# Altium schematic symbol library MCU - AVR.SchLib: 58 symbols (part 1 of 2)
Pins are listed as number, name and electrical type; pins without a type are passive.

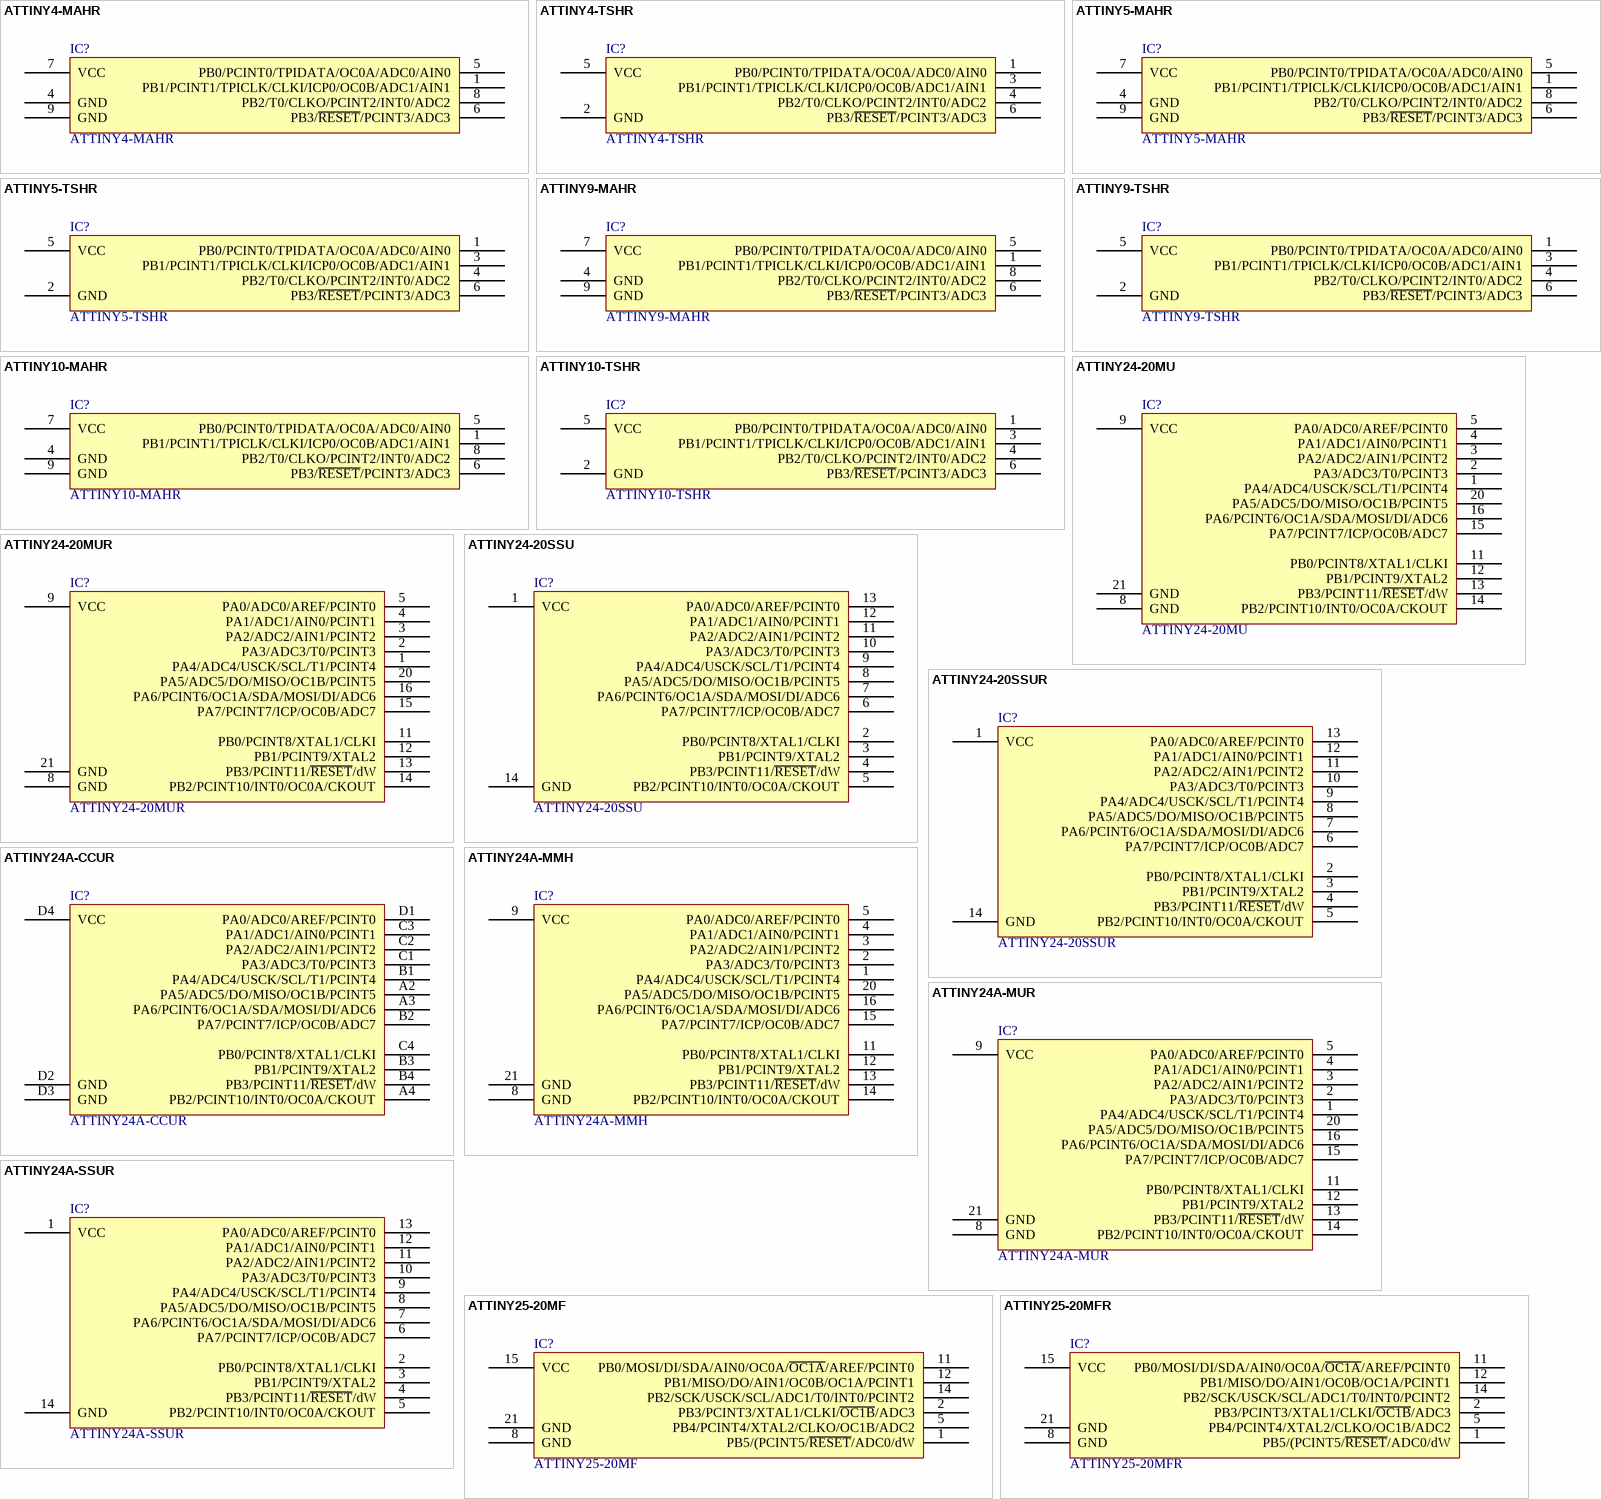
[diagram p0: symbols ATTINY4-MAHR to ATTINY25-20MFR]

## ATTINY4-MAHR
designator IC?
IC MCU 8BIT 512B FLASH 8UDFN; Manufacturer: Atmel; Core Processor: AVR; Core Size: 8-Bit; Speed: 12MHz; Peripherals: POR, PWM, WDT; Number Of IO: 4; Program Memory Size: 512B (256 x 16); Ram Size: 32 x 8; Voltage: 1.8 V ~ 5.5 V; Oscillator Type: Internal; Part Number: ATTINY4-MAHR; PartId: 9152; Supplier 1: Digi-Key; Supplier Part Number 1: ATTINY4-MAHRTR-ND; ComponentLink1Description: Datasheet; ComponentLink1URL: http://www.atmel.com/images/atmel-8127-avr-8-bit-microcontroller-attiny4-attiny5-attiny9-attiny10_datasheet-summary.pdf; ComponentLink2Description: Digi-Key Listing; ComponentLink2URL: http://www.digikey.com/product-detail/en/ATTINY4-MAHR/ATTINY4-MAHRTR-ND/2271064; Price: 0.4284; Device Package: 8-UFDFN Exposed Pad; Connectivity: -; Program Memory Type: FLASH; EEPROM Size: -; Data Converters: -
footprint ATMEL UDFN-8 2x2mm 8MA4
pins: 1 PB1/PCINT1/TPICLK/CLKI/ICP0/OC0B/ADC1/AIN1, 4 GND, 5 PB0/PCINT0/TPIDATA/OC0A/ADC0/AIN0, 6 PB3/~{RESET}/PCINT3/ADC3, 7 VCC, 8 PB2/T0/CLKO/PCINT2/INT0/ADC2, 9 GND

## ATTINY4-TSHR
designator IC?
IC MCU 8BIT 512B FLASH SOT23-6; Manufacturer: Atmel; Core Processor: AVR; Core Size: 8-Bit; Speed: 12MHz; Peripherals: POR, PWM, WDT; Number Of IO: 4; Program Memory Size: 512B (256 x 16); Ram Size: 32 x 8; Voltage: 1.8 V ~ 5.5 V; Oscillator Type: Internal; Part Number: ATTINY4-TSHR; PartId: 9148; Supplier 1: Digi-Key; Supplier Part Number 1: ATTINY4-TSHRTR-ND; ComponentLink1Description: Datasheet; ComponentLink1URL: http://www.atmel.com/images/atmel-8127-avr-8-bit-microcontroller-attiny4-attiny5-attiny9-attiny10_datasheet-summary.pdf; ComponentLink2Description: Digi-Key Listing; ComponentLink2URL: http://www.digikey.com/product-detail/en/ATTINY4-TSHR/ATTINY4-TSHRTR-ND/2238292; Price: 0.378; Device Package: SOT-23-6; Connectivity: -; Program Memory Type: FLASH; EEPROM Size: -; Data Converters: -
footprint ATMEL SOT-23-6 6ST1
pins: 1 PB0/PCINT0/TPIDATA/OC0A/ADC0/AIN0, 2 GND, 3 PB1/PCINT1/TPICLK/CLKI/ICP0/OC0B/ADC1/AIN1, 4 PB2/T0/CLKO/PCINT2/INT0/ADC2, 5 VCC, 6 PB3/~{RESET}/PCINT3/ADC3

## ATTINY5-MAHR
designator IC?
IC MCU 8BIT 512B FLASH 8UDFN; Manufacturer: Atmel; Core Processor: AVR; Core Size: 8-Bit; Speed: 12MHz; Peripherals: POR, PWM, WDT; Number Of IO: 4; Program Memory Size: 512B (256 x 16); Ram Size: 32 x 8; Voltage: 1.8 V ~ 5.5 V; Data Converters: A/D 4x8b; Oscillator Type: Internal; Part Number: ATTINY5-MAHR; PartId: 9153; Supplier 1: Digi-Key; Supplier Part Number 1: ATTINY5-MAHRTR-ND; ComponentLink1Description: Datasheet; ComponentLink1URL: http://www.atmel.com/images/atmel-8127-avr-8-bit-microcontroller-attiny4-attiny5-attiny9-attiny10_datasheet-summary.pdf; ComponentLink2Description: Digi-Key Listing; ComponentLink2URL: http://www.digikey.com/product-detail/en/ATTINY5-MAHR/ATTINY5-MAHRTR-ND/2271062; Price: 0.441; Device Package: 8-UFDFN Exposed Pad; Connectivity: -; Program Memory Type: FLASH; EEPROM Size: -
footprint ATMEL UDFN-8 2x2mm 8MA4
pins: 1 PB1/PCINT1/TPICLK/CLKI/ICP0/OC0B/ADC1/AIN1, 4 GND, 5 PB0/PCINT0/TPIDATA/OC0A/ADC0/AIN0, 6 PB3/~{RESET}/PCINT3/ADC3, 7 VCC, 8 PB2/T0/CLKO/PCINT2/INT0/ADC2, 9 GND

## ATTINY5-TSHR
designator IC?
IC MCU 8BIT 512B FLASH SOT23-6; Manufacturer: Atmel; Core Processor: AVR; Core Size: 8-Bit; Speed: 12MHz; Peripherals: POR, PWM, WDT; Number Of IO: 4; Program Memory Size: 512B (256 x 16); Ram Size: 32 x 8; Voltage: 1.8 V ~ 5.5 V; Data Converters: A/D 4x8b; Oscillator Type: Internal; Part Number: ATTINY5-TSHR; PartId: 9149; Supplier 1: Digi-Key; Supplier Part Number 1: ATTINY5-TSHRTR-ND; ComponentLink1Description: Datasheet; ComponentLink1URL: http://www.atmel.com/images/atmel-8127-avr-8-bit-microcontroller-attiny4-attiny5-attiny9-attiny10_datasheet-summary.pdf; ComponentLink2Description: Digi-Key Listing; ComponentLink2URL: http://www.digikey.com/product-detail/en/ATTINY5-TSHR/ATTINY5-TSHRTR-ND/2238294; Price: 0.3906; Device Package: SOT-23-6; Connectivity: -; Program Memory Type: FLASH; EEPROM Size: -
footprint ATMEL SOT-23-6 6ST1
pins: 1 PB0/PCINT0/TPIDATA/OC0A/ADC0/AIN0, 2 GND, 3 PB1/PCINT1/TPICLK/CLKI/ICP0/OC0B/ADC1/AIN1, 4 PB2/T0/CLKO/PCINT2/INT0/ADC2, 5 VCC, 6 PB3/~{RESET}/PCINT3/ADC3

## ATTINY9-MAHR
designator IC?
IC MCU 8BIT 1KB FLASH 8UDFN; Manufacturer: Atmel; Core Processor: AVR; Core Size: 8-Bit; Speed: 12MHz; Peripherals: POR, PWM, WDT; Number Of IO: 4; Program Memory Size: 1KB (512 x 16); Ram Size: 32 x 8; Voltage: 1.8 V ~ 5.5 V; Oscillator Type: Internal; Part Number: ATTINY9-MAHR; PartId: 9151; Supplier 1: Digi-Key; Supplier Part Number 1: ATTINY9-MAHRTR-ND; ComponentLink1Description: Datasheet; ComponentLink1URL: http://www.atmel.com/images/atmel-8127-avr-8-bit-microcontroller-attiny4-attiny5-attiny9-attiny10_datasheet-summary.pdf; ComponentLink2Description: Digi-Key Listing; ComponentLink2URL: http://www.digikey.com/product-detail/en/ATTINY9-MAHR/ATTINY9-MAHRTR-ND/2271056; Price: 0.441; Device Package: 8-UFDFN Exposed Pad; Connectivity: -; Program Memory Type: FLASH; EEPROM Size: -; Data Converters: -
footprint ATMEL UDFN-8 2x2mm 8MA4
pins: 1 PB1/PCINT1/TPICLK/CLKI/ICP0/OC0B/ADC1/AIN1, 4 GND, 5 PB0/PCINT0/TPIDATA/OC0A/ADC0/AIN0, 6 PB3/~{RESET}/PCINT3/ADC3, 7 VCC, 8 PB2/T0/CLKO/PCINT2/INT0/ADC2, 9 GND

## ATTINY9-TSHR
designator IC?
IC MCU 8BIT 1KB FLASH SOT23-6; Manufacturer: Atmel; Core Processor: AVR; Core Size: 8-Bit; Speed: 12MHz; Peripherals: POR, PWM, WDT; Number Of IO: 4; Program Memory Size: 1KB (512 x 16); Ram Size: 32 x 8; Voltage: 1.8 V ~ 5.5 V; Oscillator Type: Internal; Part Number: ATTINY9-TSHR; PartId: 9150; Supplier 1: Digi-Key; Supplier Part Number 1: ATTINY9-TSHRTR-ND; ComponentLink1Description: Datasheet; ComponentLink1URL: http://www.atmel.com/images/atmel-8127-avr-8-bit-microcontroller-attiny4-attiny5-attiny9-attiny10_datasheet-summary.pdf; ComponentLink2Description: Digi-Key Listing; ComponentLink2URL: http://www.digikey.com/product-detail/en/ATTINY9-TSHR/ATTINY9-TSHRTR-ND/2238299; Price: 0.3906; Device Package: SOT-23-6; Connectivity: -; Program Memory Type: FLASH; EEPROM Size: -; Data Converters: -
footprint ATMEL SOT-23-6 6ST1
pins: 1 PB0/PCINT0/TPIDATA/OC0A/ADC0/AIN0, 2 GND, 3 PB1/PCINT1/TPICLK/CLKI/ICP0/OC0B/ADC1/AIN1, 4 PB2/T0/CLKO/PCINT2/INT0/ADC2, 5 VCC, 6 PB3/~{RESET}/PCINT3/ADC3

## ATTINY10-MAHR
designator IC?
IC MCU 8BIT 1KB FLASH 8UDFN; Manufacturer: Atmel; Core Processor: AVR; Core Size: 8-Bit; Speed: 12MHz; Peripherals: POR, PWM, WDT; Number Of IO: 4; Program Memory Size: 1KB (512 x 16); Ram Size: 32 x 8; Voltage: 1.8 V ~ 5.5 V; Data Converters: A/D 4x8b; Oscillator Type: Internal; Part Number: ATTINY10-MAHR; PartId: 9154; Supplier 1: Digi-Key; Supplier Part Number 1: ATTINY10-MAHRTR-ND; ComponentLink1Description: Datasheet; ComponentLink1URL: http://www.atmel.com/images/atmel-8127-avr-8-bit-microcontroller-attiny4-attiny5-attiny9-attiny10_datasheet-summary.pdf; ComponentLink2Description: Digi-Key Listing; ComponentLink2URL: http://www.digikey.com/product-detail/en/ATTINY10-MAHR/ATTINY10-MAHRTR-ND/2357300; Price: 0.4536; Device Package: 8-UFDFN Exposed Pad; Connectivity: -; Program Memory Type: FLASH; EEPROM Size: -
footprint ATMEL UDFN-8 2x2mm 8MA4
pins: 1 PB1/PCINT1/TPICLK/CLKI/ICP0/OC0B/ADC1/AIN1, 4 GND, 5 PB0/PCINT0/TPIDATA/OC0A/ADC0/AIN0, 6 PB3/~{RESET}/PCINT3/ADC3, 7 VCC, 8 PB2/T0/CLKO/PCINT2/INT0/ADC2, 9 GND

## ATTINY10-TSHR
designator IC?
IC MCU 8BIT 1KB FLASH SOT23; Manufacturer: Atmel; Core Processor: AVR; Core Size: 8-Bit; Speed: 12MHz; Peripherals: POR, PWM, WDT; Number Of IO: 4; Program Memory Size: 1KB (512 x 16); Ram Size: 32 x 8; Voltage: 1.8 V ~ 5.5 V; Data Converters: A/D 4x8b; Oscillator Type: Internal; Part Number: ATTINY10-TSHR; PartId: 9147; Supplier 1: Digi-Key; Supplier Part Number 1: ATTINY10-TSHRTR-ND; ComponentLink1Description: Datasheet; ComponentLink1URL: http://www.atmel.com/images/atmel-8127-avr-8-bit-microcontroller-attiny4-attiny5-attiny9-attiny10_datasheet-summary.pdf; ComponentLink2Description: Digi-Key Listing; ComponentLink2URL: http://www.digikey.com/product-detail/en/ATTINY10-TSHR/ATTINY10-TSHRTR-ND/2051008; Price: 0.4032; Device Package: SOT-23-6; Connectivity: -; Program Memory Type: FLASH; EEPROM Size: -
footprint ATMEL SOT-23-6 6ST1
pins: 1 PB0/PCINT0/TPIDATA/OC0A/ADC0/AIN0, 2 GND, 3 PB1/PCINT1/TPICLK/CLKI/ICP0/OC0B/ADC1/AIN1, 4 PB2/T0/CLKO/PCINT2/INT0/ADC2, 5 VCC, 6 PB3/~{RESET}/PCINT3/ADC3

## ATTINY24-20MU
designator IC?
IC MCU 8BIT 2KB FLASH 20QFN; Manufacturer: Atmel; Core Processor: AVR; Core Size: 8-Bit; Speed: 20MHz; Number Of IO: 12; Program Memory Size: 2KB (1K x 16); EEPROM Size: 128 x 8; Data Converters: A/D 8x10b; Oscillator Type: Internal; Part Number: ATTINY24-20MU; PartId: 9199; Supplier 1: Digi-Key; Supplier Part Number 1: ATTINY24-20MU-ND; ComponentLink1Description: Datasheet; ComponentLink1URL: http://www.atmel.com/Images/doc8006.pdf; ComponentLink2Description: Digi-Key Listing; ComponentLink2URL: https://www.digikey.com/product-detail/en/ATTINY24-20MU/ATTINY24-20MU-ND/1245882; Price: 2.93; Device Package: 20-WFQFN Exposed Pad; Series: AVR® ATtiny; Program Memory Type: FLASH; Ram Size: 128 x 8
footprint Atmel MLF-20 20M1
pins: 1 PA4/ADC4/USCK/SCL/T1/PCINT4, 2 PA3/ADC3/T0/PCINT3, 3 PA2/ADC2/AIN1/PCINT2, 4 PA1/ADC1/AIN0/PCINT1, 5 PA0/ADC0/AREF/PCINT0, 8 GND, 9 VCC, 11 PB0/PCINT8/XTAL1/CLKI, 12 PB1/PCINT9/XTAL2, 13 PB3/PCINT11/~{RESET}/dW, 14 PB2/PCINT10/INT0/OC0A/CKOUT, 15 PA7/PCINT7/ICP/OC0B/ADC7, 16 PA6/PCINT6/OC1A/SDA/MOSI/DI/ADC6, 20 PA5/ADC5/DO/MISO/OC1B/PCINT5, 21 GND

## ATTINY24-20MUR
designator IC?
IC MCU 8BIT 2KB FLASH 20QFN; Manufacturer: Atmel; Core Processor: AVR; Core Size: 8-Bit; Speed: 20MHz; Number Of IO: 12; Program Memory Size: 2KB (1K x 16); EEPROM Size: 128 x 8; Data Converters: A/D 8x10b; Oscillator Type: Internal; Part Number: ATTINY24-20MUR; PartId: 9204; Supplier 1: Digi-Key; Supplier Part Number 1: ATTINY24-20MURTR-ND; ComponentLink1Description: Datasheet; ComponentLink1URL: http://www.atmel.com/Images/8006s.pdf; ComponentLink2Description: Digi-Key Listing; ComponentLink2URL: https://www.digikey.com/product-detail/en/ATTINY24-20MUR/ATTINY24-20MURTR-ND/2357339; Price: 1.4962; Device Package: 20-WFQFN Exposed Pad; Series: AVR® ATtiny; Program Memory Type: FLASH; Ram Size: 128 x 8
footprint Atmel MLF-20 20M1
pins: 1 PA4/ADC4/USCK/SCL/T1/PCINT4, 2 PA3/ADC3/T0/PCINT3, 3 PA2/ADC2/AIN1/PCINT2, 4 PA1/ADC1/AIN0/PCINT1, 5 PA0/ADC0/AREF/PCINT0, 8 GND, 9 VCC, 11 PB0/PCINT8/XTAL1/CLKI, 12 PB1/PCINT9/XTAL2, 13 PB3/PCINT11/~{RESET}/dW, 14 PB2/PCINT10/INT0/OC0A/CKOUT, 15 PA7/PCINT7/ICP/OC0B/ADC7, 16 PA6/PCINT6/OC1A/SDA/MOSI/DI/ADC6, 20 PA5/ADC5/DO/MISO/OC1B/PCINT5, 21 GND

## ATTINY24-20SSU
designator IC?
IC MCU 8BIT 2KB FLASH 14SOIC; Manufacturer: Atmel; Core Processor: AVR; Core Size: 8-Bit; Speed: 20MHz; Number Of IO: 12; Program Memory Size: 2KB (1K x 16); EEPROM Size: 128 x 8; Data Converters: A/D 8x10b; Oscillator Type: Internal; Part Number: ATTINY24-20SSU; PartId: 9194; Supplier 1: Digi-Key; Supplier Part Number 1: ATTINY24-20SSU-ND; ComponentLink1Description: Datasheet; ComponentLink1URL: http://www.atmel.com/Images/8006s.pdf; ComponentLink2Description: Digi-Key Listing; ComponentLink2URL: https://www.digikey.com/product-detail/en/ATTINY24-20SSU/ATTINY24-20SSU-ND/1245884; Price: 2.83; Device Package: 14-SOIC (0.154", 3.90mm Width); Series: AVR® ATtiny; Program Memory Type: FLASH; Ram Size: 128 x 8
footprint Atmel SO-14 14S1
pins: 1 VCC, 2 PB0/PCINT8/XTAL1/CLKI, 3 PB1/PCINT9/XTAL2, 4 PB3/PCINT11/~{RESET}/dW, 5 PB2/PCINT10/INT0/OC0A/CKOUT, 6 PA7/PCINT7/ICP/OC0B/ADC7, 7 PA6/PCINT6/OC1A/SDA/MOSI/DI/ADC6, 8 PA5/ADC5/DO/MISO/OC1B/PCINT5, 9 PA4/ADC4/USCK/SCL/T1/PCINT4, 10 PA3/ADC3/T0/PCINT3, 11 PA2/ADC2/AIN1/PCINT2, 12 PA1/ADC1/AIN0/PCINT1, 13 PA0/ADC0/AREF/PCINT0, 14 GND

## ATTINY24-20SSUR
designator IC?
IC MCU 8BIT 2KB FLASH 14SOIC; Manufacturer: Atmel; Core Processor: AVR; Core Size: 8-Bit; Speed: 20MHz; Number Of IO: 12; Program Memory Size: 2KB (1K x 16); EEPROM Size: 128 x 8; Data Converters: A/D 8x10b; Oscillator Type: Internal; Part Number: ATTINY24-20SSUR; PartId: 9198; Supplier 1: Digi-Key; Supplier Part Number 1: ATTINY24-20SSURTR-ND; ComponentLink1Description: Datasheet; ComponentLink1URL: http://www.atmel.com/Images/doc8006.pdf; ComponentLink2Description: Digi-Key Listing; ComponentLink2URL: https://www.digikey.com/product-detail/en/ATTINY24-20SSUR/ATTINY24-20SSURTR-ND/2357341; Price: 1.4362; Device Package: 14-SOIC (0.154", 3.90mm Width); Series: AVR® ATtiny; Program Memory Type: FLASH; Ram Size: 128 x 8
footprint Atmel SO-14 14S1
pins: 1 VCC, 2 PB0/PCINT8/XTAL1/CLKI, 3 PB1/PCINT9/XTAL2, 4 PB3/PCINT11/~{RESET}/dW, 5 PB2/PCINT10/INT0/OC0A/CKOUT, 6 PA7/PCINT7/ICP/OC0B/ADC7, 7 PA6/PCINT6/OC1A/SDA/MOSI/DI/ADC6, 8 PA5/ADC5/DO/MISO/OC1B/PCINT5, 9 PA4/ADC4/USCK/SCL/T1/PCINT4, 10 PA3/ADC3/T0/PCINT3, 11 PA2/ADC2/AIN1/PCINT2, 12 PA1/ADC1/AIN0/PCINT1, 13 PA0/ADC0/AREF/PCINT0, 14 GND

## ATTINY24A-CCUR
designator IC?
IC MCU 8BIT 2KB FLASH 15UFBGA; Manufacturer: Atmel; Core Processor: AVR; Core Size: 8-Bit; Speed: 20MHz; Number Of IO: 12; Program Memory Size: 2KB (1K x 16); EEPROM Size: 128 x 8; Data Converters: A/D 8x10b; Oscillator Type: Internal; Part Number: ATTINY24A-CCUR; PartId: 9190; Supplier 1: Digi-Key; Supplier Part Number 1: ATTINY24A-CCURTR-ND; ComponentLink1Description: Datasheet; ComponentLink1URL: http://www.atmel.com/images/8183s.pdf; ComponentLink2Description: Digi-Key Listing; ComponentLink2URL: https://www.digikey.com/product-detail/en/ATTINY24A-CCUR/ATTINY24A-CCURTR-ND/2357342; Price: 0.6725; Device Package: 15-UFBGA; Series: AVR® ATtiny; Program Memory Type: FLASH; Ram Size: 128 x 8
footprint Atmel BGA-15 3x3mm 15CC1
pins: A2 PA5/ADC5/DO/MISO/OC1B/PCINT5, A3 PA6/PCINT6/OC1A/SDA/MOSI/DI/ADC6, A4 PB2/PCINT10/INT0/OC0A/CKOUT, B1 PA4/ADC4/USCK/SCL/T1/PCINT4, B2 PA7/PCINT7/ICP/OC0B/ADC7, B3 PB1/PCINT9/XTAL2, B4 PB3/PCINT11/~{RESET}/dW, C1 PA3/ADC3/T0/PCINT3, C2 PA2/ADC2/AIN1/PCINT2, C3 PA1/ADC1/AIN0/PCINT1, C4 PB0/PCINT8/XTAL1/CLKI, D1 PA0/ADC0/AREF/PCINT0, D2 GND, D3 GND, D4 VCC

## ATTINY24A-MMH
designator IC?
IC MCU 8BIT 2KB FLASH 20VQFN; Manufacturer: Atmel; Core Processor: AVR; Core Size: 8-Bit; Speed: 20MHz; Number Of IO: 12; Program Memory Size: 2KB (1K x 16); EEPROM Size: 128 x 8; Data Converters: A/D 8x10b; Oscillator Type: Internal; Part Number: ATTINY24A-MMH; PartId: 9187; Supplier 1: Digi-Key; Supplier Part Number 1: ATTINY24A-MMH-ND; ComponentLink1Description: Datasheet; ComponentLink1URL: http://www.atmel.com/images/8183s.pdf; ComponentLink2Description: Digi-Key Listing; ComponentLink2URL: https://www.digikey.com/product-detail/en/ATTINY24A-MMH/ATTINY24A-MMH-ND/2051002; Price: 1.53; Device Package: 20-VFQFN Exposed Pad; Series: AVR® ATtiny; Program Memory Type: FLASH; Ram Size: 128 x 8
footprint Atmel VQFN-20 3x3mm 20M2
pins: 1 PA4/ADC4/USCK/SCL/T1/PCINT4, 2 PA3/ADC3/T0/PCINT3, 3 PA2/ADC2/AIN1/PCINT2, 4 PA1/ADC1/AIN0/PCINT1, 5 PA0/ADC0/AREF/PCINT0, 8 GND, 9 VCC, 11 PB0/PCINT8/XTAL1/CLKI, 12 PB1/PCINT9/XTAL2, 13 PB3/PCINT11/~{RESET}/dW, 14 PB2/PCINT10/INT0/OC0A/CKOUT, 15 PA7/PCINT7/ICP/OC0B/ADC7, 16 PA6/PCINT6/OC1A/SDA/MOSI/DI/ADC6, 20 PA5/ADC5/DO/MISO/OC1B/PCINT5, 21 GND

## ATTINY24A-MUR
designator IC?
IC MCU 8BIT 2KB FLASH 20QFN; Manufacturer: Atmel; Core Processor: AVR; Core Size: 8-Bit; Speed: 20MHz; Number Of IO: 12; Program Memory Size: 2KB (1K x 16); EEPROM Size: 128 x 8; Data Converters: A/D 8x10b; Oscillator Type: Internal; Part Number: ATTINY24A-MUR; PartId: 9181; Supplier 1: Digi-Key; Supplier Part Number 1: ATTINY24A-MURTR-ND; ComponentLink1Description: Datasheet; ComponentLink1URL: http://www.atmel.com/images/8183s.pdf; ComponentLink2Description: Digi-Key Listing; ComponentLink2URL: https://www.digikey.com/product-detail/en/ATTINY24A-MUR/ATTINY24A-MURTR-ND/2357350; Price: 0.675; Device Package: 20-WFQFN Exposed Pad; Series: AVR® ATtiny; Program Memory Type: FLASH; Ram Size: 128 x 8
footprint Atmel MLF-20 20M1
pins: 1 PA4/ADC4/USCK/SCL/T1/PCINT4, 2 PA3/ADC3/T0/PCINT3, 3 PA2/ADC2/AIN1/PCINT2, 4 PA1/ADC1/AIN0/PCINT1, 5 PA0/ADC0/AREF/PCINT0, 8 GND, 9 VCC, 11 PB0/PCINT8/XTAL1/CLKI, 12 PB1/PCINT9/XTAL2, 13 PB3/PCINT11/~{RESET}/dW, 14 PB2/PCINT10/INT0/OC0A/CKOUT, 15 PA7/PCINT7/ICP/OC0B/ADC7, 16 PA6/PCINT6/OC1A/SDA/MOSI/DI/ADC6, 20 PA5/ADC5/DO/MISO/OC1B/PCINT5, 21 GND

## ATTINY24A-SSUR
designator IC?
IC MCU 8BIT 2KB FLASH 14SOIC; Manufacturer: Atmel; Core Processor: AVR; Core Size: 8-Bit; Speed: 20MHz; Number Of IO: 12; Program Memory Size: 2KB (1K x 16); EEPROM Size: 128 x 8; Data Converters: A/D 8x10b; Oscillator Type: Internal; Part Number: ATTINY24A-SSUR; PartId: 9186; Supplier 1: Digi-Key; Supplier Part Number 1: ATTINY24A-SSURTR-ND; ComponentLink1Description: Datasheet; ComponentLink1URL: http://www.atmel.com/images/8183s.pdf; ComponentLink2Description: Digi-Key Listing; ComponentLink2URL: https://www.digikey.com/product-detail/en/ATTINY24A-SSUR/ATTINY24A-SSURTR-ND/2357352; Price: 0.625; Device Package: 14-SOIC (0.154", 3.90mm Width); Series: AVR® ATtiny; Program Memory Type: FLASH; Ram Size: 128 x 8
footprint Atmel SO-14 14S1
pins: 1 VCC, 2 PB0/PCINT8/XTAL1/CLKI, 3 PB1/PCINT9/XTAL2, 4 PB3/PCINT11/~{RESET}/dW, 5 PB2/PCINT10/INT0/OC0A/CKOUT, 6 PA7/PCINT7/ICP/OC0B/ADC7, 7 PA6/PCINT6/OC1A/SDA/MOSI/DI/ADC6, 8 PA5/ADC5/DO/MISO/OC1B/PCINT5, 9 PA4/ADC4/USCK/SCL/T1/PCINT4, 10 PA3/ADC3/T0/PCINT3, 11 PA2/ADC2/AIN1/PCINT2, 12 PA1/ADC1/AIN0/PCINT1, 13 PA0/ADC0/AREF/PCINT0, 14 GND

## ATTINY25-20MF
designator IC?
IC MCU 8BIT 2KB FLASH 20QFN; Manufacturer: Atmel; Core Processor: AVR; Core Size: 8-Bit; Speed: 20MHz; Number Of IO: 6; Program Memory Size: 2KB (1K x 16); EEPROM Size: 128 x 8; Data Converters: A/D 4x10b; Oscillator Type: Internal; Part Number: ATTINY25-20MF; PartId: 9178; Supplier 1: Digi-Key; Supplier Part Number 1: ATTINY25-20MF-ND; ComponentLink1Description: Datasheet; ComponentLink1URL: http://www.atmel.com/Images/Atmel-2586-AVR-8-bit-Microcontroller-ATtiny25-ATtiny45-ATtiny85_Datasheet-Summary.pdf; ComponentLink2Description: Digi-Key Listing; ComponentLink2URL: https://www.digikey.com/product-detail/en/ATTINY25-20MF/ATTINY25-20MF-ND/3046446; Price: 1.46; Device Package: 20-WFQFN Exposed Pad; Series: AVR® ATtiny; Program Memory Type: FLASH; Ram Size: 128 x 8
footprint Atmel MLF-20 20M1
pins: 1 PB5/(PCINT5/~{RESET}/ADC0/dW, 2 PB3/PCINT3/XTAL1/CLKI/~{OC1B}/ADC3, 5 PB4/PCINT4/XTAL2/CLKO/OC1B/ADC2, 8 GND, 11 PB0/MOSI/DI/SDA/AIN0/OC0A/~{OC1A}/AREF/PCINT0, 12 PB1/MISO/DO/AIN1/OC0B/OC1A/PCINT1, 14 PB2/SCK/USCK/SCL/ADC1/T0/INT0/PCINT2, 15 VCC, 21 GND

## ATTINY25-20MFR
designator IC?
IC MCU 8BIT 2KB FLASH 20QFN; Manufacturer: Atmel; Core Processor: AVR; Core Size: 8-Bit; Speed: 20MHz; Number Of IO: 6; Program Memory Size: 2KB (1K x 16); EEPROM Size: 128 x 8; Data Converters: A/D 4x10b; Oscillator Type: Internal; Part Number: ATTINY25-20MFR; PartId: 9165; Supplier 1: Digi-Key; Supplier Part Number 1: ATTINY25-20MFRTR-ND; ComponentLink1Description: Datasheet; ComponentLink1URL: http://www.atmel.com/Images/Atmel-2586-AVR-8-bit-Microcontroller-ATtiny25-ATtiny45-ATtiny85_Datasheet-Summary.pdf; ComponentLink2Description: Digi-Key Listing; ComponentLink2URL: https://www.digikey.com/product-detail/en/ATTINY25-20MFR/ATTINY25-20MFRTR-ND/3046318; Price: 0.6925; Device Package: 20-WFQFN Exposed Pad; Series: AVR® ATtiny; Program Memory Type: FLASH; Ram Size: 128 x 8
footprint Atmel MLF-20 20M1
pins: 1 PB5/(PCINT5/~{RESET}/ADC0/dW, 2 PB3/PCINT3/XTAL1/CLKI/~{OC1B}/ADC3, 5 PB4/PCINT4/XTAL2/CLKO/OC1B/ADC2, 8 GND, 11 PB0/MOSI/DI/SDA/AIN0/OC0A/~{OC1A}/AREF/PCINT0, 12 PB1/MISO/DO/AIN1/OC0B/OC1A/PCINT1, 14 PB2/SCK/USCK/SCL/ADC1/T0/INT0/PCINT2, 15 VCC, 21 GND

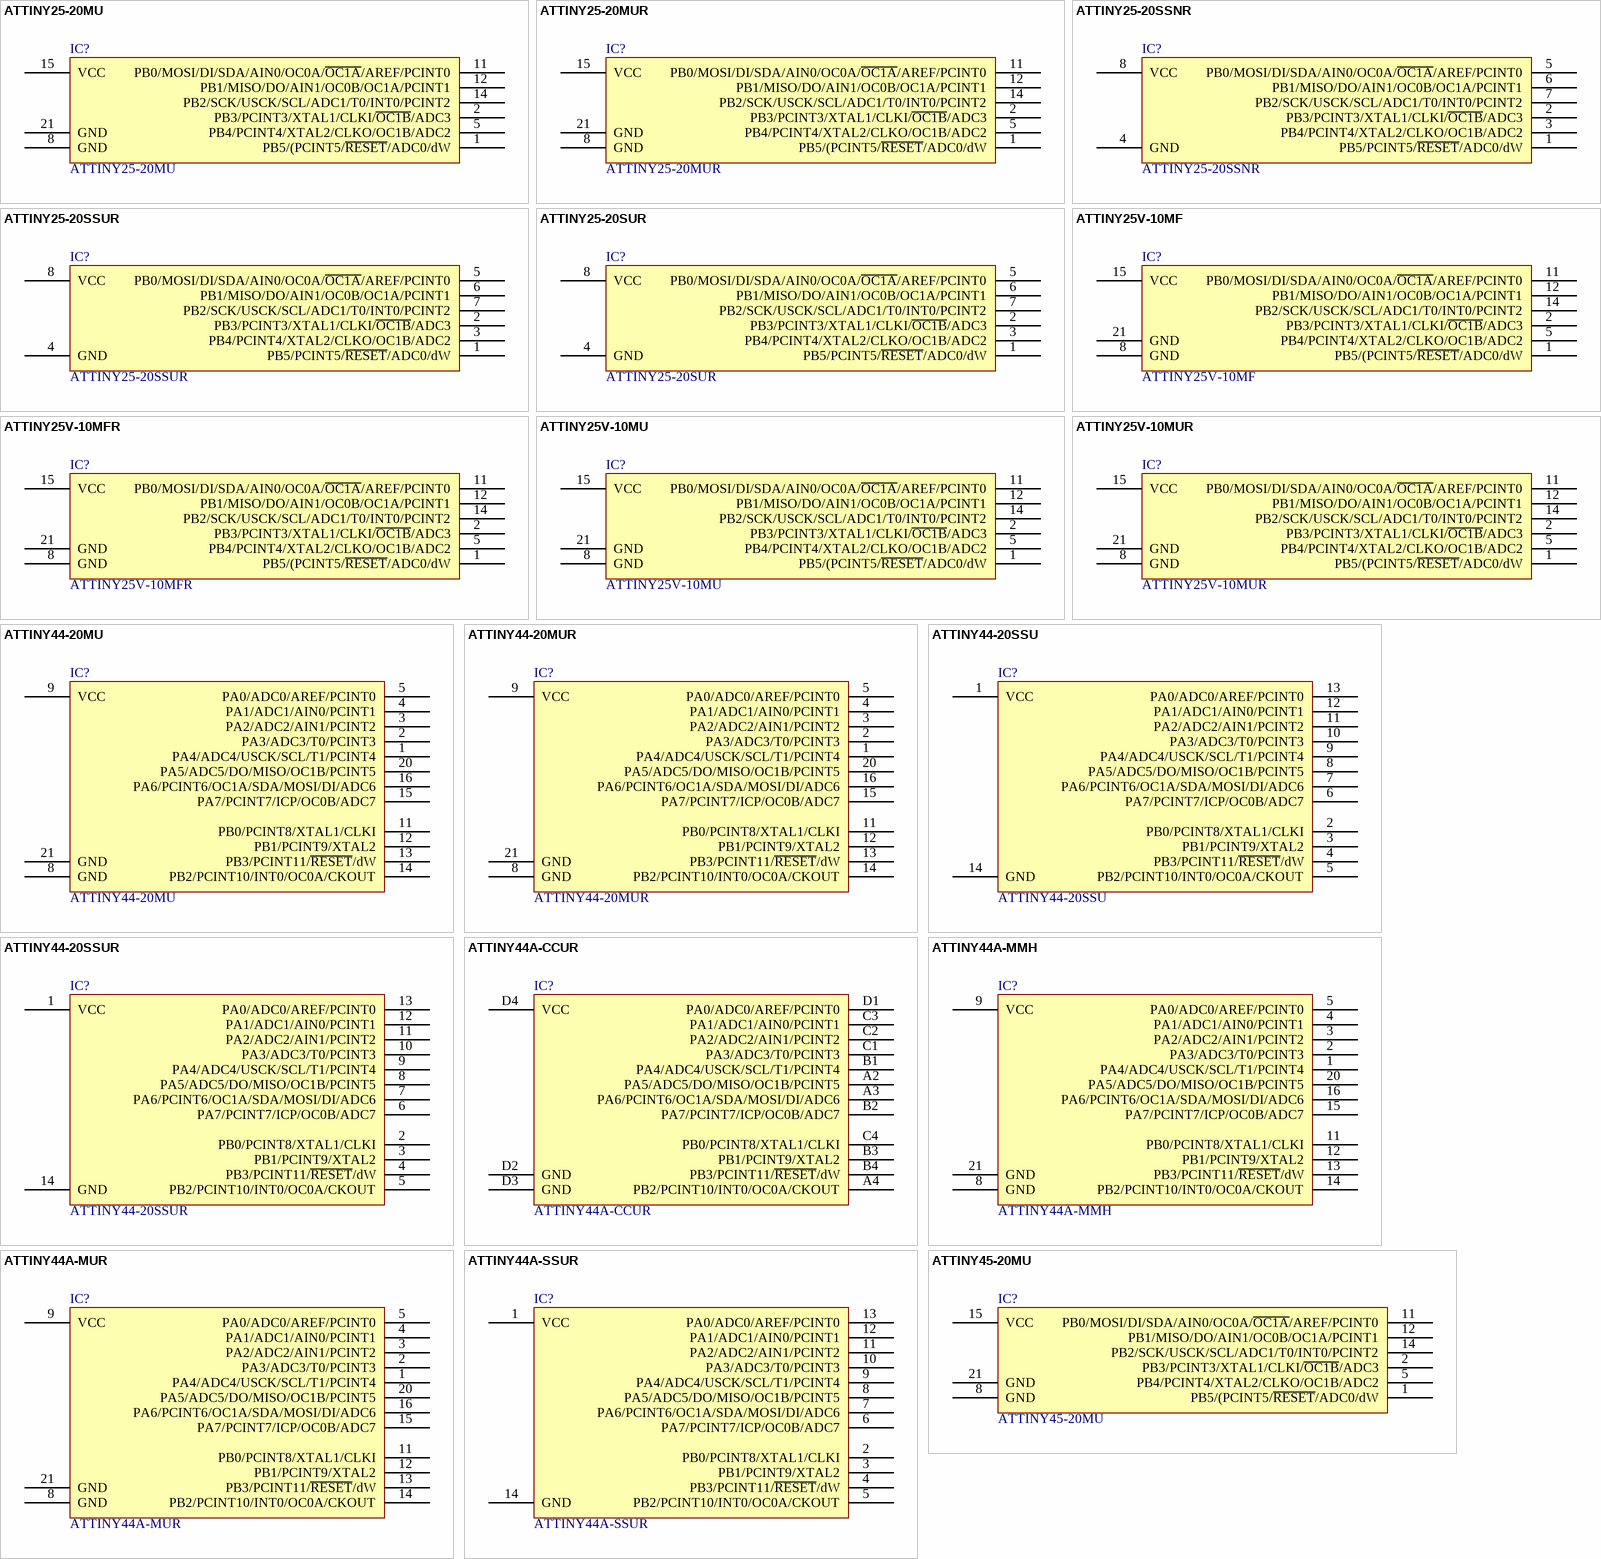
[diagram p1: symbols ATTINY25-20MU to ATTINY45-20MU]

## ATTINY25-20MU
designator IC?
IC MCU 8BIT 2KB FLASH 20QFN; Manufacturer: Atmel; Core Processor: AVR; Core Size: 8-Bit; Speed: 20MHz; Number Of IO: 6; Program Memory Size: 2KB (1K x 16); EEPROM Size: 128 x 8; Data Converters: A/D 4x10b; Oscillator Type: Internal; Part Number: ATTINY25-20MU; PartId: 9180; Supplier 1: Digi-Key; Supplier Part Number 1: ATTINY25-20MU-ND; ComponentLink1Description: Datasheet; ComponentLink1URL: http://www.atmel.com/Images/Atmel-2586-AVR-8-bit-Microcontroller-ATtiny25-ATtiny45-ATtiny85_Datasheet-Summary.pdf; ComponentLink2Description: Digi-Key Listing; ComponentLink2URL: https://www.digikey.com/product-detail/en/ATTINY25-20MU/ATTINY25-20MU-ND/1245888; Price: 1.51; Device Package: 20-WFQFN Exposed Pad; Series: AVR® ATtiny; Program Memory Type: FLASH; Ram Size: 128 x 8
footprint Atmel MLF-20 20M1
pins: 1 PB5/(PCINT5/~{RESET}/ADC0/dW, 2 PB3/PCINT3/XTAL1/CLKI/~{OC1B}/ADC3, 5 PB4/PCINT4/XTAL2/CLKO/OC1B/ADC2, 8 GND, 11 PB0/MOSI/DI/SDA/AIN0/OC0A/~{OC1A}/AREF/PCINT0, 12 PB1/MISO/DO/AIN1/OC0B/OC1A/PCINT1, 14 PB2/SCK/USCK/SCL/ADC1/T0/INT0/PCINT2, 15 VCC, 21 GND

## ATTINY25-20MUR
designator IC?
IC MCU 8BIT 2KB FLASH 20QFN; Manufacturer: Atmel; Core Processor: AVR; Core Size: 8-Bit; Speed: 20MHz; Number Of IO: 6; Program Memory Size: 2KB (1K x 16); EEPROM Size: 128 x 8; Data Converters: A/D 4x10b; Oscillator Type: Internal; Part Number: ATTINY25-20MUR; PartId: 9164; Supplier 1: Digi-Key; Supplier Part Number 1: ATTINY25-20MURTR-ND; ComponentLink1Description: Datasheet; ComponentLink1URL: http://www.atmel.com/Images/Atmel-2586-AVR-8-bit-Microcontroller-ATtiny25-ATtiny45-ATtiny85_Datasheet-Summary.pdf; ComponentLink2Description: Digi-Key Listing; ComponentLink2URL: https://www.digikey.com/product-detail/en/ATTINY25-20MUR/ATTINY25-20MURTR-ND/2357358; Price: 0.6375; Device Package: 20-WFQFN Exposed Pad; Series: AVR® ATtiny; Program Memory Type: FLASH; Ram Size: 128 x 8
footprint Atmel MLF-20 20M1
pins: 1 PB5/(PCINT5/~{RESET}/ADC0/dW, 2 PB3/PCINT3/XTAL1/CLKI/~{OC1B}/ADC3, 5 PB4/PCINT4/XTAL2/CLKO/OC1B/ADC2, 8 GND, 11 PB0/MOSI/DI/SDA/AIN0/OC0A/~{OC1A}/AREF/PCINT0, 12 PB1/MISO/DO/AIN1/OC0B/OC1A/PCINT1, 14 PB2/SCK/USCK/SCL/ADC1/T0/INT0/PCINT2, 15 VCC, 21 GND

## ATTINY25-20SSNR
designator IC?
IC MCU 8BIT 2KB FLASH 8SOIC; Manufacturer: Atmel; Core Processor: AVR; Core Size: 8-Bit; Speed: 20MHz; Number Of IO: 6; Program Memory Size: 2KB (1K x 16); EEPROM Size: 128 x 8; Data Converters: A/D 4x10b; Oscillator Type: Internal; Part Number: ATTINY25-20SSNR; PartId: 9161; Supplier 1: Digi-Key; Supplier Part Number 1: ATTINY25-20SSNRTR-ND; ComponentLink1Description: Datasheet; ComponentLink1URL: http://www.atmel.com/Images/Atmel-2586-AVR-8-bit-Microcontroller-ATtiny25-ATtiny45-ATtiny85_Datasheet-Summary.pdf; ComponentLink2Description: Digi-Key Listing; ComponentLink2URL: https://www.digikey.com/product-detail/en/ATTINY25-20SSNR/ATTINY25-20SSNRTR-ND/2508014; Price: 0.6199; Device Package: 8-SOIC (0.154", 3.90mm Width); Series: AVR® ATtiny; Program Memory Type: FLASH; Ram Size: 128 x 8
footprint ATMEL SO-8 S8S1
pins: 1 PB5/PCINT5/~{RESET}/ADC0/dW, 2 PB3/PCINT3/XTAL1/CLKI/~{OC1B}/ADC3, 3 PB4/PCINT4/XTAL2/CLKO/OC1B/ADC2, 4 GND, 5 PB0/MOSI/DI/SDA/AIN0/OC0A/~{OC1A}/AREF/PCINT0, 6 PB1/MISO/DO/AIN1/OC0B/OC1A/PCINT1, 7 PB2/SCK/USCK/SCL/ADC1/T0/INT0/PCINT2, 8 VCC

## ATTINY25-20SSUR
designator IC?
IC MCU 8BIT 2KB FLASH 8SOIC; Manufacturer: Atmel; Core Processor: AVR; Core Size: 8-Bit; Speed: 20MHz; Number Of IO: 6; Program Memory Size: 2KB (1K x 16); EEPROM Size: 128 x 8; Data Converters: A/D 4x10b; Oscillator Type: Internal; Part Number: ATTINY25-20SSUR; PartId: 9160; Supplier 1: Digi-Key; Supplier Part Number 1: ATTINY25-20SSURTR-ND; ComponentLink1Description: Datasheet; ComponentLink1URL: http://www.atmel.com/Images/Atmel-2586-AVR-8-bit-Microcontroller-ATtiny25-ATtiny45-ATtiny85_Datasheet-Summary.pdf; ComponentLink2Description: Digi-Key Listing; ComponentLink2URL: https://www.digikey.com/product-detail/en/ATTINY25-20SSUR/ATTINY25-20SSURTR-ND/2357362; Price: 0.5922; Device Package: 8-SOIC (0.154", 3.90mm Width); Series: AVR® ATtiny; Program Memory Type: FLASH; Ram Size: 128 x 8
footprint ATMEL SO-8 S8S1
pins: 1 PB5/PCINT5/~{RESET}/ADC0/dW, 2 PB3/PCINT3/XTAL1/CLKI/~{OC1B}/ADC3, 3 PB4/PCINT4/XTAL2/CLKO/OC1B/ADC2, 4 GND, 5 PB0/MOSI/DI/SDA/AIN0/OC0A/~{OC1A}/AREF/PCINT0, 6 PB1/MISO/DO/AIN1/OC0B/OC1A/PCINT1, 7 PB2/SCK/USCK/SCL/ADC1/T0/INT0/PCINT2, 8 VCC

## ATTINY25-20SUR
designator IC?
IC MCU 8BIT 2KB FLASH 8SOIC; Manufacturer: Atmel; Core Processor: AVR; Core Size: 8-Bit; Speed: 20MHz; Number Of IO: 6; Program Memory Size: 2KB (1K x 16); EEPROM Size: 128 x 8; Data Converters: A/D 4x10b; Oscillator Type: Internal; Part Number: ATTINY25-20SUR; PartId: 9155; Supplier 1: Digi-Key; Supplier Part Number 1: ATTINY25-20SURTR-ND; ComponentLink1Description: Datasheet; ComponentLink1URL: http://www.atmel.com/Images/Atmel-2586-AVR-8-bit-Microcontroller-ATtiny25-ATtiny45-ATtiny85_Datasheet-Summary.pdf; ComponentLink2Description: Digi-Key Listing; ComponentLink2URL: https://www.digikey.com/product-detail/en/ATTINY25-20SUR/ATTINY25-20SURTR-ND/2357364; Price: 0.5922; Device Package: 8-SOIC (0.209", 5.30mm Width); Series: AVR® ATtiny; Program Memory Type: FLASH; Ram Size: 128 x 8
footprint Atmel SO-8 Wide 8S2
pins: 1 PB5/PCINT5/~{RESET}/ADC0/dW, 2 PB3/PCINT3/XTAL1/CLKI/~{OC1B}/ADC3, 3 PB4/PCINT4/XTAL2/CLKO/OC1B/ADC2, 4 GND, 5 PB0/MOSI/DI/SDA/AIN0/OC0A/~{OC1A}/AREF/PCINT0, 6 PB1/MISO/DO/AIN1/OC0B/OC1A/PCINT1, 7 PB2/SCK/USCK/SCL/ADC1/T0/INT0/PCINT2, 8 VCC

## ATTINY25V-10MF
designator IC?
IC MCU 8BIT 2KB FLASH 20QFN; Manufacturer: Atmel; Core Processor: AVR; Core Size: 8-Bit; Speed: 20MHz; Number Of IO: 6; Program Memory Size: 2KB (1K x 16); EEPROM Size: 128 x 8; Data Converters: A/D 4x10b; Oscillator Type: Internal; Part Number: ATTINY25V-10MF; PartId: 9179; Supplier 1: Digi-Key; Supplier Part Number 1: ATTINY25V-10MF-ND; ComponentLink1Description: Datasheet; ComponentLink1URL: http://www.atmel.com/Images/Atmel-2586-AVR-8-bit-Microcontroller-ATtiny25-ATtiny45-ATtiny85_Datasheet-Summary.pdf; ComponentLink2Description: Digi-Key Listing; ComponentLink2URL: https://www.digikey.com/product-detail/en/ATTINY25V-10MF/ATTINY25V-10MF-ND/3046447; Price: 2.55; Device Package: 20-WFQFN Exposed Pad; Series: AVR® ATtiny; Program Memory Type: FLASH; Ram Size: 128 x 8
footprint Atmel MLF-20 20M1
pins: 1 PB5/(PCINT5/~{RESET}/ADC0/dW, 2 PB3/PCINT3/XTAL1/CLKI/~{OC1B}/ADC3, 5 PB4/PCINT4/XTAL2/CLKO/OC1B/ADC2, 8 GND, 11 PB0/MOSI/DI/SDA/AIN0/OC0A/~{OC1A}/AREF/PCINT0, 12 PB1/MISO/DO/AIN1/OC0B/OC1A/PCINT1, 14 PB2/SCK/USCK/SCL/ADC1/T0/INT0/PCINT2, 15 VCC, 21 GND

## ATTINY25V-10MFR
designator IC?
IC MCU 8BIT 2KB FLASH 20QFN; Manufacturer: Atmel; Core Processor: AVR; Core Size: 8-Bit; Speed: 20MHz; Number Of IO: 6; Program Memory Size: 2KB (1K x 16); EEPROM Size: 128 x 8; Data Converters: A/D 4x10b; Oscillator Type: Internal; Part Number: ATTINY25V-10MFR; PartId: 9167; Supplier 1: Digi-Key; Supplier Part Number 1: ATTINY25V-10MFRTR-ND; ComponentLink1Description: Datasheet; ComponentLink1URL: http://www.atmel.com/Images/Atmel-2586-AVR-8-bit-Microcontroller-ATtiny25-ATtiny45-ATtiny85_Datasheet-Summary.pdf; ComponentLink2Description: Digi-Key Listing; ComponentLink2URL: https://www.digikey.com/product-detail/en/ATTINY25V-10MFR/ATTINY25V-10MFRTR-ND/3046319; Price: 1.3087; Device Package: 20-WFQFN Exposed Pad; Series: AVR® ATtiny; Program Memory Type: FLASH; Ram Size: 128 x 8
footprint Atmel MLF-20 20M1
pins: 1 PB5/(PCINT5/~{RESET}/ADC0/dW, 2 PB3/PCINT3/XTAL1/CLKI/~{OC1B}/ADC3, 5 PB4/PCINT4/XTAL2/CLKO/OC1B/ADC2, 8 GND, 11 PB0/MOSI/DI/SDA/AIN0/OC0A/~{OC1A}/AREF/PCINT0, 12 PB1/MISO/DO/AIN1/OC0B/OC1A/PCINT1, 14 PB2/SCK/USCK/SCL/ADC1/T0/INT0/PCINT2, 15 VCC, 21 GND

## ATTINY25V-10MU
designator IC?
IC MCU 8BIT 2KB FLASH 20QFN; Manufacturer: Atmel; Core Processor: AVR; Core Size: 8-Bit; Speed: 10MHz; Number Of IO: 6; Program Memory Size: 2KB (1K x 16); EEPROM Size: 128 x 8; Data Converters: A/D 4x10b; Oscillator Type: Internal; Part Number: ATTINY25V-10MU; PartId: 9176; Supplier 1: Digi-Key; Supplier Part Number 1: ATTINY25V-10MU-ND; ComponentLink1Description: Datasheet; ComponentLink1URL: http://www.atmel.com/Images/Atmel-2586-AVR-8-bit-Microcontroller-ATtiny25-ATtiny45-ATtiny85_Datasheet-Summary.pdf; ComponentLink2Description: Digi-Key Listing; ComponentLink2URL: https://www.digikey.com/product-detail/en/ATTINY25V-10MU/ATTINY25V-10MU-ND/1245889; Price: 2.56; Device Package: 20-WFQFN Exposed Pad; Series: AVR® ATtiny; Program Memory Type: FLASH; Ram Size: 128 x 8
footprint Atmel MLF-20 20M1
pins: 1 PB5/(PCINT5/~{RESET}/ADC0/dW, 2 PB3/PCINT3/XTAL1/CLKI/~{OC1B}/ADC3, 5 PB4/PCINT4/XTAL2/CLKO/OC1B/ADC2, 8 GND, 11 PB0/MOSI/DI/SDA/AIN0/OC0A/~{OC1A}/AREF/PCINT0, 12 PB1/MISO/DO/AIN1/OC0B/OC1A/PCINT1, 14 PB2/SCK/USCK/SCL/ADC1/T0/INT0/PCINT2, 15 VCC, 21 GND

## ATTINY25V-10MUR
designator IC?
IC MCU 8BIT 2KB FLASH 20QFN; Manufacturer: Atmel; Core Processor: AVR; Core Size: 8-Bit; Speed: 10MHz; Number Of IO: 6; Program Memory Size: 2KB (1K x 16); EEPROM Size: 128 x 8; Data Converters: A/D 4x10b; Oscillator Type: Internal; Part Number: ATTINY25V-10MUR; PartId: 9168; Supplier 1: Digi-Key; Supplier Part Number 1: ATTINY25V-10MURTR-ND; ComponentLink1Description: Datasheet; ComponentLink1URL: http://www.atmel.com/Images/Atmel-2586-AVR-8-bit-Microcontroller-ATtiny25-ATtiny45-ATtiny85_Datasheet-Summary.pdf; ComponentLink2Description: Digi-Key Listing; ComponentLink2URL: https://www.digikey.com/product-detail/en/ATTINY25V-10MUR/ATTINY25V-10MURTR-ND/2357366; Price: 1.19; Device Package: 20-WFQFN Exposed Pad; Series: AVR® ATtiny; Program Memory Type: FLASH; Ram Size: 128 x 8
footprint Atmel MLF-20 20M1
pins: 1 PB5/(PCINT5/~{RESET}/ADC0/dW, 2 PB3/PCINT3/XTAL1/CLKI/~{OC1B}/ADC3, 5 PB4/PCINT4/XTAL2/CLKO/OC1B/ADC2, 8 GND, 11 PB0/MOSI/DI/SDA/AIN0/OC0A/~{OC1A}/AREF/PCINT0, 12 PB1/MISO/DO/AIN1/OC0B/OC1A/PCINT1, 14 PB2/SCK/USCK/SCL/ADC1/T0/INT0/PCINT2, 15 VCC, 21 GND

## ATTINY44-20MU
designator IC?
IC MCU 8BIT 4KB FLASH 20QFN; Manufacturer: Atmel; Core Processor: AVR; Core Size: 8-Bit; Speed: 20MHz; Number Of IO: 12; Program Memory Size: 4KB (2K x 16); EEPROM Size: 256 x 8; Data Converters: A/D 8x10b; Oscillator Type: Internal; Part Number: ATTINY44-20MU; PartId: 9201; Supplier 1: Digi-Key; Supplier Part Number 1: ATTINY44-20MU-ND; ComponentLink1Description: Datasheet; ComponentLink1URL: http://www.atmel.com/Images/8006s.pdf; ComponentLink2Description: Digi-Key Listing; ComponentLink2URL: https://www.digikey.com/product-detail/en/ATTINY44-20MU/ATTINY44-20MU-ND/1245902; Price: 0; Device Package: 20-WFQFN Exposed Pad; Series: AVR® ATtiny; Program Memory Type: FLASH; Ram Size: 256 x 8
footprint Atmel MLF-20 20M1
pins: 1 PA4/ADC4/USCK/SCL/T1/PCINT4, 2 PA3/ADC3/T0/PCINT3, 3 PA2/ADC2/AIN1/PCINT2, 4 PA1/ADC1/AIN0/PCINT1, 5 PA0/ADC0/AREF/PCINT0, 8 GND, 9 VCC, 11 PB0/PCINT8/XTAL1/CLKI, 12 PB1/PCINT9/XTAL2, 13 PB3/PCINT11/~{RESET}/dW, 14 PB2/PCINT10/INT0/OC0A/CKOUT, 15 PA7/PCINT7/ICP/OC0B/ADC7, 16 PA6/PCINT6/OC1A/SDA/MOSI/DI/ADC6, 20 PA5/ADC5/DO/MISO/OC1B/PCINT5, 21 GND

## ATTINY44-20MUR
designator IC?
IC MCU 8BIT 4KB FLASH 20QFN; Manufacturer: Atmel; Core Processor: AVR; Core Size: 8-Bit; Speed: 20MHz; Number Of IO: 12; Program Memory Size: 4KB (2K x 16); EEPROM Size: 256 x 8; Data Converters: A/D 8x10b; Oscillator Type: Internal; Part Number: ATTINY44-20MUR; PartId: 9203; Supplier 1: Digi-Key; Supplier Part Number 1: ATTINY44-20MURTR-ND; ComponentLink1Description: Datasheet; ComponentLink1URL: http://www.atmel.com/Images/8006s.pdf; ComponentLink2Description: Digi-Key Listing; ComponentLink2URL: https://www.digikey.com/product-detail/en/ATTINY44-20MUR/ATTINY44-20MURTR-ND/2357387; Price: 1.555; Device Package: 20-WFQFN Exposed Pad; Series: AVR® ATtiny; Program Memory Type: FLASH; Ram Size: 256 x 8
footprint Atmel MLF-20 20M1
pins: 1 PA4/ADC4/USCK/SCL/T1/PCINT4, 2 PA3/ADC3/T0/PCINT3, 3 PA2/ADC2/AIN1/PCINT2, 4 PA1/ADC1/AIN0/PCINT1, 5 PA0/ADC0/AREF/PCINT0, 8 GND, 9 VCC, 11 PB0/PCINT8/XTAL1/CLKI, 12 PB1/PCINT9/XTAL2, 13 PB3/PCINT11/~{RESET}/dW, 14 PB2/PCINT10/INT0/OC0A/CKOUT, 15 PA7/PCINT7/ICP/OC0B/ADC7, 16 PA6/PCINT6/OC1A/SDA/MOSI/DI/ADC6, 20 PA5/ADC5/DO/MISO/OC1B/PCINT5, 21 GND

## ATTINY44-20SSU
designator IC?
IC MCU 8BIT 4KB FLASH 14SOIC; Manufacturer: Atmel; Core Processor: AVR; Core Size: 8-Bit; Speed: 20MHz; Number Of IO: 12; Program Memory Size: 4KB (2K x 16); EEPROM Size: 256 x 8; Data Converters: A/D 8x10b; Oscillator Type: Internal; Part Number: ATTINY44-20SSU; PartId: 9195; Supplier 1: Digi-Key; Supplier Part Number 1: ATTINY44-20SSU-ND; ComponentLink1Description: Datasheet; ComponentLink1URL: http://www.atmel.com/Images/8006s.pdf; ComponentLink2Description: Digi-Key Listing; ComponentLink2URL: https://www.digikey.com/product-detail/en/ATTINY44-20SSU/ATTINY44-20SSU-ND/1245904; Price: 0; Device Package: 14-SOIC (0.154", 3.90mm Width); Series: AVR® ATtiny; Program Memory Type: FLASH; Ram Size: 256 x 8
footprint Atmel SO-14 14S1
pins: 1 VCC, 2 PB0/PCINT8/XTAL1/CLKI, 3 PB1/PCINT9/XTAL2, 4 PB3/PCINT11/~{RESET}/dW, 5 PB2/PCINT10/INT0/OC0A/CKOUT, 6 PA7/PCINT7/ICP/OC0B/ADC7, 7 PA6/PCINT6/OC1A/SDA/MOSI/DI/ADC6, 8 PA5/ADC5/DO/MISO/OC1B/PCINT5, 9 PA4/ADC4/USCK/SCL/T1/PCINT4, 10 PA3/ADC3/T0/PCINT3, 11 PA2/ADC2/AIN1/PCINT2, 12 PA1/ADC1/AIN0/PCINT1, 13 PA0/ADC0/AREF/PCINT0, 14 GND

## ATTINY44-20SSUR
designator IC?
IC MCU 8BIT 4KB FLASH 14SOIC; Manufacturer: Atmel; Core Processor: AVR; Core Size: 8-Bit; Speed: 20MHz; Number Of IO: 12; Program Memory Size: 4KB (2K x 16); EEPROM Size: 256 x 8; Data Converters: A/D 8x10b; Oscillator Type: Internal; Part Number: ATTINY44-20SSUR; PartId: 9197; Supplier 1: Digi-Key; Supplier Part Number 1: ATTINY44-20SSURTR-ND; ComponentLink1Description: Datasheet; ComponentLink1URL: http://www.atmel.com/Images/8006s.pdf; ComponentLink2Description: Digi-Key Listing; ComponentLink2URL: https://www.digikey.com/product-detail/en/ATTINY44-20SSUR/ATTINY44-20SSURTR-ND/2357389; Price: 1.495; Device Package: 14-SOIC (0.154", 3.90mm Width); Series: AVR® ATtiny; Program Memory Type: FLASH; Ram Size: 256 x 8
footprint Atmel SO-14 14S1
pins: 1 VCC, 2 PB0/PCINT8/XTAL1/CLKI, 3 PB1/PCINT9/XTAL2, 4 PB3/PCINT11/~{RESET}/dW, 5 PB2/PCINT10/INT0/OC0A/CKOUT, 6 PA7/PCINT7/ICP/OC0B/ADC7, 7 PA6/PCINT6/OC1A/SDA/MOSI/DI/ADC6, 8 PA5/ADC5/DO/MISO/OC1B/PCINT5, 9 PA4/ADC4/USCK/SCL/T1/PCINT4, 10 PA3/ADC3/T0/PCINT3, 11 PA2/ADC2/AIN1/PCINT2, 12 PA1/ADC1/AIN0/PCINT1, 13 PA0/ADC0/AREF/PCINT0, 14 GND

## ATTINY44A-CCUR
designator IC?
IC MCU 8BIT 4KB FLASH 15UFBGA; Manufacturer: Atmel; Core Processor: AVR; Core Size: 8-Bit; Speed: 20MHz; Number Of IO: 12; Program Memory Size: 4KB (2K x 16); EEPROM Size: 256 x 8; Data Converters: A/D 8x10b; Oscillator Type: Internal; Part Number: ATTINY44A-CCUR; PartId: 9191; Supplier 1: Digi-Key; Supplier Part Number 1: ATTINY44A-CCURTR-ND; ComponentLink1Description: Datasheet; ComponentLink1URL: http://www.atmel.com/Images/8183S.pdf; ComponentLink2Description: Digi-Key Listing; ComponentLink2URL: https://www.digikey.com/product-detail/en/ATTINY44A-CCUR/ATTINY44A-CCURTR-ND/2357391; Price: 0.7662; Device Package: 15-UFBGA; Series: AVR® ATtiny; Program Memory Type: FLASH; Ram Size: 256 x 8
footprint Atmel BGA-15 3x3mm 15CC1
pins: A2 PA5/ADC5/DO/MISO/OC1B/PCINT5, A3 PA6/PCINT6/OC1A/SDA/MOSI/DI/ADC6, A4 PB2/PCINT10/INT0/OC0A/CKOUT, B1 PA4/ADC4/USCK/SCL/T1/PCINT4, B2 PA7/PCINT7/ICP/OC0B/ADC7, B3 PB1/PCINT9/XTAL2, B4 PB3/PCINT11/~{RESET}/dW, C1 PA3/ADC3/T0/PCINT3, C2 PA2/ADC2/AIN1/PCINT2, C3 PA1/ADC1/AIN0/PCINT1, C4 PB0/PCINT8/XTAL1/CLKI, D1 PA0/ADC0/AREF/PCINT0, D2 GND, D3 GND, D4 VCC

## ATTINY44A-MMH
designator IC?
IC MCU 8BIT 4KB FLASH 20VQFN; Manufacturer: Atmel; Core Processor: AVR; Core Size: 8-Bit; Speed: 20MHz; Number Of IO: 12; Program Memory Size: 4KB (2K x 16); EEPROM Size: 256 x 8; Data Converters: A/D 8x10b; Oscillator Type: Internal; Part Number: ATTINY44A-MMH; PartId: 9188; Supplier 1: Digi-Key; Supplier Part Number 1: ATTINY44A-MMH-ND; ComponentLink1Description: Datasheet; ComponentLink1URL: http://www.atmel.com/Images/8183S.pdf; ComponentLink2Description: Digi-Key Listing; ComponentLink2URL: https://www.digikey.com/product-detail/en/ATTINY44A-MMH/ATTINY44A-MMH-ND/2050979; Price: 1.73; Device Package: 20-VFQFN Exposed Pad; Series: AVR® ATtiny; Program Memory Type: FLASH; Ram Size: 256 x 8
footprint Atmel VQFN-20 3x3mm 20M2
pins: 1 PA4/ADC4/USCK/SCL/T1/PCINT4, 2 PA3/ADC3/T0/PCINT3, 3 PA2/ADC2/AIN1/PCINT2, 4 PA1/ADC1/AIN0/PCINT1, 5 PA0/ADC0/AREF/PCINT0, 8 GND, 9 VCC, 11 PB0/PCINT8/XTAL1/CLKI, 12 PB1/PCINT9/XTAL2, 13 PB3/PCINT11/~{RESET}/dW, 14 PB2/PCINT10/INT0/OC0A/CKOUT, 15 PA7/PCINT7/ICP/OC0B/ADC7, 16 PA6/PCINT6/OC1A/SDA/MOSI/DI/ADC6, 20 PA5/ADC5/DO/MISO/OC1B/PCINT5, 21 GND

## ATTINY44A-MUR
designator IC?
IC MCU 8BIT 4KB FLASH 20QFN; Manufacturer: Atmel; Core Processor: AVR; Core Size: 8-Bit; Speed: 20MHz; Number Of IO: 12; Program Memory Size: 4KB (2K x 16); EEPROM Size: 256 x 8; Data Converters: A/D 8x10b; Oscillator Type: Internal; Part Number: ATTINY44A-MUR; PartId: 9183; Supplier 1: Digi-Key; Supplier Part Number 1: ATTINY44A-MURTR-ND; ComponentLink1Description: Datasheet; ComponentLink1URL: http://www.atmel.com/Images/8183S.pdf; ComponentLink2Description: Digi-Key Listing; ComponentLink2URL: https://www.digikey.com/product-detail/en/ATTINY44A-MUR/ATTINY44A-MURTR-ND/2357399; Price: 0.7625; Device Package: 20-WFQFN Exposed Pad; Series: AVR® ATtiny; Program Memory Type: FLASH; Ram Size: 256 x 8
footprint Atmel MLF-20 20M1
pins: 1 PA4/ADC4/USCK/SCL/T1/PCINT4, 2 PA3/ADC3/T0/PCINT3, 3 PA2/ADC2/AIN1/PCINT2, 4 PA1/ADC1/AIN0/PCINT1, 5 PA0/ADC0/AREF/PCINT0, 8 GND, 9 VCC, 11 PB0/PCINT8/XTAL1/CLKI, 12 PB1/PCINT9/XTAL2, 13 PB3/PCINT11/~{RESET}/dW, 14 PB2/PCINT10/INT0/OC0A/CKOUT, 15 PA7/PCINT7/ICP/OC0B/ADC7, 16 PA6/PCINT6/OC1A/SDA/MOSI/DI/ADC6, 20 PA5/ADC5/DO/MISO/OC1B/PCINT5, 21 GND

## ATTINY44A-SSUR
designator IC?
IC MCU 8BIT 4KB FLASH 14SOIC; Manufacturer: Atmel; Core Processor: AVR; Core Size: 8-Bit; Speed: 20MHz; Number Of IO: 12; Program Memory Size: 4KB (2K x 16); EEPROM Size: 256 x 8; Data Converters: A/D 8x10b; Oscillator Type: Internal; Part Number: ATTINY44A-SSUR; PartId: 9184; Supplier 1: Digi-Key; Supplier Part Number 1: ATTINY44A-SSURTR-ND; ComponentLink1Description: Datasheet; ComponentLink1URL: http://www.atmel.com/Images/8183S.pdf; ComponentLink2Description: Digi-Key Listing; ComponentLink2URL: https://www.digikey.com/product-detail/en/ATTINY44A-SSUR/ATTINY44A-SSURTR-ND/2357401; Price: 0.7125; Device Package: 14-SOIC (0.154", 3.90mm Width); Series: AVR® ATtiny; Program Memory Type: FLASH; Ram Size: 256 x 8
footprint Atmel SO-14 14S1
pins: 1 VCC, 2 PB0/PCINT8/XTAL1/CLKI, 3 PB1/PCINT9/XTAL2, 4 PB3/PCINT11/~{RESET}/dW, 5 PB2/PCINT10/INT0/OC0A/CKOUT, 6 PA7/PCINT7/ICP/OC0B/ADC7, 7 PA6/PCINT6/OC1A/SDA/MOSI/DI/ADC6, 8 PA5/ADC5/DO/MISO/OC1B/PCINT5, 9 PA4/ADC4/USCK/SCL/T1/PCINT4, 10 PA3/ADC3/T0/PCINT3, 11 PA2/ADC2/AIN1/PCINT2, 12 PA1/ADC1/AIN0/PCINT1, 13 PA0/ADC0/AREF/PCINT0, 14 GND

## ATTINY45-20MU
designator IC?
IC MCU 8BIT 4KB FLASH 20QFN; Manufacturer: Atmel; Core Processor: AVR; Core Size: 8-Bit; Speed: 20MHz; Number Of IO: 6; Program Memory Size: 4KB (2K x 16); EEPROM Size: 256 x 8; Data Converters: A/D 4x10b; Oscillator Type: Internal; Part Number: ATTINY45-20MU; PartId: 9175; Supplier 1: Digi-Key; Supplier Part Number 1: ATTINY45-20MU-ND; ComponentLink1Description: Datasheet; ComponentLink1URL: http://www.atmel.com/Images/Atmel-2586-AVR-8-bit-Microcontroller-ATtiny25-ATtiny45-ATtiny85_Datasheet-Summary.pdf; ComponentLink2Description: Digi-Key Listing; ComponentLink2URL: https://www.digikey.com/product-detail/en/ATTINY45-20MU/ATTINY45-20MU-ND/1008734; Price: 1.45; Device Package: 20-WFQFN Exposed Pad; Series: AVR® ATtiny; Program Memory Type: FLASH; Ram Size: 256 x 8
footprint Atmel MLF-20 20M1
pins: 1 PB5/(PCINT5/~{RESET}/ADC0/dW, 2 PB3/PCINT3/XTAL1/CLKI/~{OC1B}/ADC3, 5 PB4/PCINT4/XTAL2/CLKO/OC1B/ADC2, 8 GND, 11 PB0/MOSI/DI/SDA/AIN0/OC0A/~{OC1A}/AREF/PCINT0, 12 PB1/MISO/DO/AIN1/OC0B/OC1A/PCINT1, 14 PB2/SCK/USCK/SCL/ADC1/T0/INT0/PCINT2, 15 VCC, 21 GND

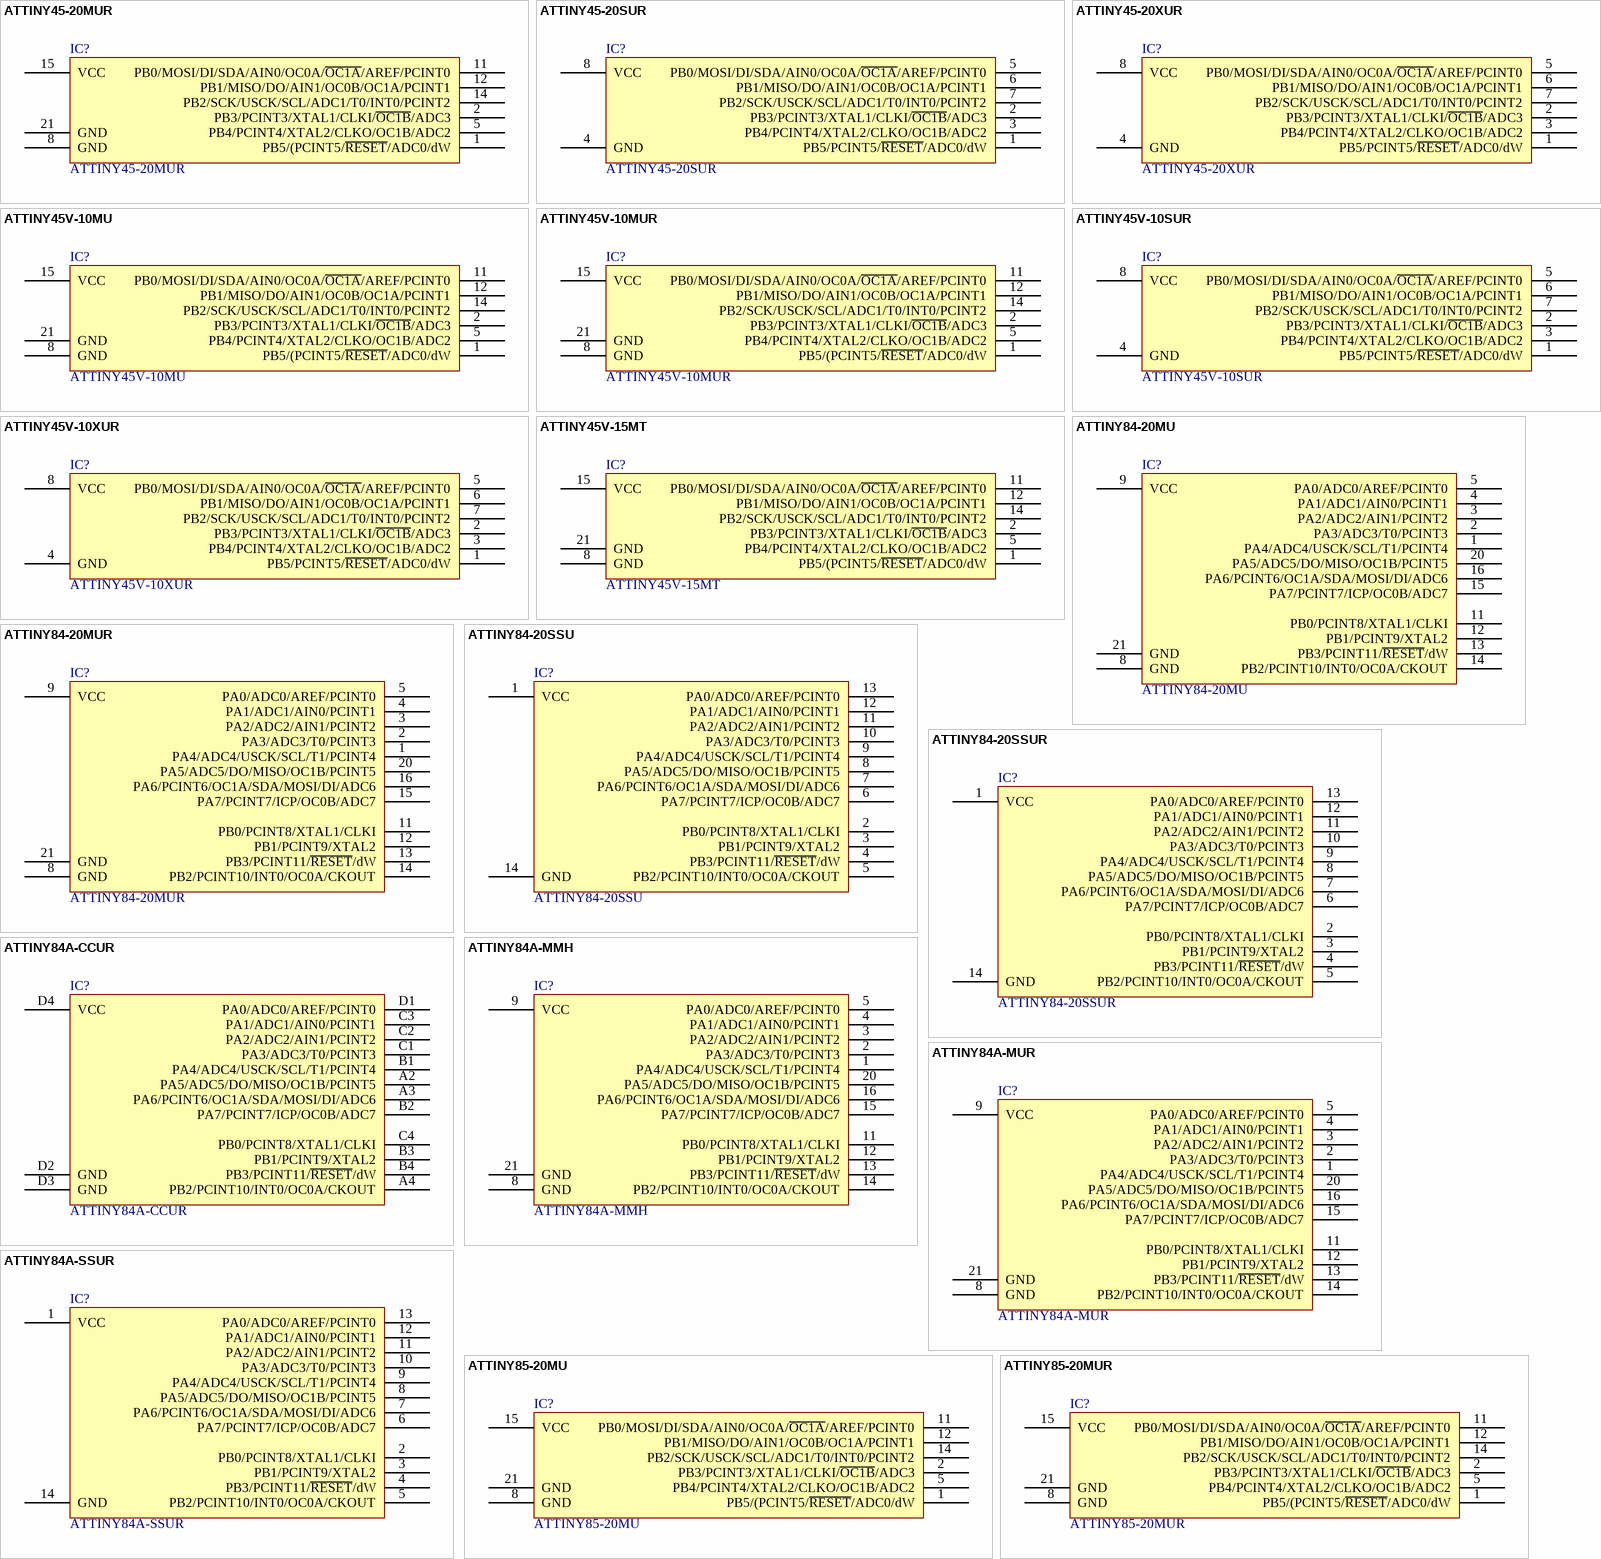
[diagram p2: symbols ATTINY45-20MUR to ATTINY85-20MUR]

## ATTINY45-20MUR
designator IC?
IC MCU 8BIT 4KB FLASH 20QFN; Manufacturer: Atmel; Core Processor: AVR; Core Size: 8-Bit; Speed: 20MHz; Number Of IO: 6; Program Memory Size: 4KB (2K x 16); EEPROM Size: 256 x 8; Data Converters: A/D 4x10b; Oscillator Type: Internal; Part Number: ATTINY45-20MUR; PartId: 9173; Supplier 1: Digi-Key; Supplier Part Number 1: ATTINY45-20MURTR-ND; ComponentLink1Description: Datasheet; ComponentLink1URL: http://www.atmel.com/Images/Atmel-2586-AVR-8-bit-Microcontroller-ATtiny25-ATtiny45-ATtiny85_Datasheet-Summary.pdf; ComponentLink2Description: Digi-Key Listing; ComponentLink2URL: https://www.digikey.com/product-detail/en/ATTINY45-20MUR/ATTINY45-20MURTR-ND/2357407; Price: 0.6875; Device Package: 20-WFQFN Exposed Pad; Series: AVR® ATtiny; Program Memory Type: FLASH; Ram Size: 256 x 8
footprint Atmel MLF-20 20M1
pins: 1 PB5/(PCINT5/~{RESET}/ADC0/dW, 2 PB3/PCINT3/XTAL1/CLKI/~{OC1B}/ADC3, 5 PB4/PCINT4/XTAL2/CLKO/OC1B/ADC2, 8 GND, 11 PB0/MOSI/DI/SDA/AIN0/OC0A/~{OC1A}/AREF/PCINT0, 12 PB1/MISO/DO/AIN1/OC0B/OC1A/PCINT1, 14 PB2/SCK/USCK/SCL/ADC1/T0/INT0/PCINT2, 15 VCC, 21 GND

## ATTINY45-20SUR
designator IC?
IC MCU 8BIT 4KB FLASH 8SOIC; Manufacturer: Atmel; Core Processor: AVR; Core Size: 8-Bit; Speed: 20MHz; Number Of IO: 6; Program Memory Size: 4KB (2K x 16); EEPROM Size: 256 x 8; Data Converters: A/D 4x10b; Oscillator Type: Internal; Part Number: ATTINY45-20SUR; PartId: 9156; Supplier 1: Digi-Key; Supplier Part Number 1: ATTINY45-20SURTR-ND; ComponentLink1Description: Datasheet; ComponentLink1URL: http://www.atmel.com/Images/Atmel-2586-AVR-8-bit-Microcontroller-ATtiny25-ATtiny45-ATtiny85_Datasheet-Summary.pdf; ComponentLink2Description: Digi-Key Listing; ComponentLink2URL: https://www.digikey.com/product-detail/en/ATTINY45-20SUR/ATTINY45-20SURTR-ND/2063205; Price: 0.6375; Device Package: 8-SOIC (0.209", 5.30mm Width); Series: AVR® ATtiny; Program Memory Type: FLASH; Ram Size: 256 x 8
footprint Atmel SO-8 Wide 8S2
pins: 1 PB5/PCINT5/~{RESET}/ADC0/dW, 2 PB3/PCINT3/XTAL1/CLKI/~{OC1B}/ADC3, 3 PB4/PCINT4/XTAL2/CLKO/OC1B/ADC2, 4 GND, 5 PB0/MOSI/DI/SDA/AIN0/OC0A/~{OC1A}/AREF/PCINT0, 6 PB1/MISO/DO/AIN1/OC0B/OC1A/PCINT1, 7 PB2/SCK/USCK/SCL/ADC1/T0/INT0/PCINT2, 8 VCC

## ATTINY45-20XUR
designator IC?
IC MCU 8BIT 4KB FLASH 8TSSOP; Manufacturer: Atmel; Core Processor: AVR; Core Size: 8-Bit; Speed: 20MHz; Number Of IO: 6; Program Memory Size: 4KB (2K x 16); EEPROM Size: 256 x 8; Data Converters: A/D 4x10b; Oscillator Type: Internal; Part Number: ATTINY45-20XUR; PartId: 9162; Supplier 1: Digi-Key; Supplier Part Number 1: ATTINY45-20XURTR-ND; ComponentLink1Description: Datasheet; ComponentLink1URL: http://www.atmel.com/Images/Atmel-2586-AVR-8-bit-Microcontroller-ATtiny25-ATtiny45-ATtiny85_Datasheet-Summary.pdf; ComponentLink2Description: Digi-Key Listing; ComponentLink2URL: https://www.digikey.com/product-detail/en/ATTINY45-20XUR/ATTINY45-20XURTR-ND/2357411; Price: 0.6375; Device Package: 8-TSSOP (0.173", 4.40mm Width); Series: AVR® ATtiny; Program Memory Type: FLASH; Ram Size: 256 x 8
footprint Atmel TSSOP-8 8X
pins: 1 PB5/PCINT5/~{RESET}/ADC0/dW, 2 PB3/PCINT3/XTAL1/CLKI/~{OC1B}/ADC3, 3 PB4/PCINT4/XTAL2/CLKO/OC1B/ADC2, 4 GND, 5 PB0/MOSI/DI/SDA/AIN0/OC0A/~{OC1A}/AREF/PCINT0, 6 PB1/MISO/DO/AIN1/OC0B/OC1A/PCINT1, 7 PB2/SCK/USCK/SCL/ADC1/T0/INT0/PCINT2, 8 VCC

## ATTINY45V-10MU
designator IC?
IC MCU 8BIT 4KB FLASH 20QFN; Manufacturer: Atmel; Core Processor: AVR; Core Size: 8-Bit; Speed: 10MHz; Number Of IO: 6; Program Memory Size: 4KB (2K x 16); EEPROM Size: 256 x 8; Data Converters: A/D 4x10b; Oscillator Type: Internal; Part Number: ATTINY45V-10MU; PartId: 9177; Supplier 1: Digi-Key; Supplier Part Number 1: ATTINY45V-10MU-ND; ComponentLink1Description: Datasheet; ComponentLink1URL: http://www.atmel.com/Images/Atmel-2586-AVR-8-bit-Microcontroller-ATtiny25-ATtiny45-ATtiny85_Datasheet-Summary.pdf; ComponentLink2Description: Digi-Key Listing; ComponentLink2URL: https://www.digikey.com/product-detail/en/ATTINY45V-10MU/ATTINY45V-10MU-ND/1008735; Price: 2.68; Device Package: 20-WFQFN Exposed Pad; Series: AVR® ATtiny; Program Memory Type: FLASH; Ram Size: 256 x 8
footprint Atmel MLF-20 20M1
pins: 1 PB5/(PCINT5/~{RESET}/ADC0/dW, 2 PB3/PCINT3/XTAL1/CLKI/~{OC1B}/ADC3, 5 PB4/PCINT4/XTAL2/CLKO/OC1B/ADC2, 8 GND, 11 PB0/MOSI/DI/SDA/AIN0/OC0A/~{OC1A}/AREF/PCINT0, 12 PB1/MISO/DO/AIN1/OC0B/OC1A/PCINT1, 14 PB2/SCK/USCK/SCL/ADC1/T0/INT0/PCINT2, 15 VCC, 21 GND

## ATTINY45V-10MUR
designator IC?
IC MCU 8BIT 4KB FLASH 20QFN; Manufacturer: Atmel; Core Processor: AVR; Core Size: 8-Bit; Speed: 10MHz; Number Of IO: 6; Program Memory Size: 4KB (2K x 16); EEPROM Size: 256 x 8; Data Converters: A/D 4x10b; Oscillator Type: Internal; Part Number: ATTINY45V-10MUR; PartId: 9170; Supplier 1: Digi-Key; Supplier Part Number 1: ATTINY45V-10MURTR-ND; ComponentLink1Description: Datasheet; ComponentLink1URL: http://www.atmel.com/Images/Atmel-2586-AVR-8-bit-Microcontroller-ATtiny25-ATtiny45-ATtiny85_Datasheet-Summary.pdf; ComponentLink2Description: Digi-Key Listing; ComponentLink2URL: https://www.digikey.com/product-detail/en/ATTINY45V-10MUR/ATTINY45V-10MURTR-ND/2357413; Price: 1.3725; Device Package: 20-WFQFN Exposed Pad; Series: AVR® ATtiny; Program Memory Type: FLASH; Ram Size: 256 x 8
footprint Atmel MLF-20 20M1
pins: 1 PB5/(PCINT5/~{RESET}/ADC0/dW, 2 PB3/PCINT3/XTAL1/CLKI/~{OC1B}/ADC3, 5 PB4/PCINT4/XTAL2/CLKO/OC1B/ADC2, 8 GND, 11 PB0/MOSI/DI/SDA/AIN0/OC0A/~{OC1A}/AREF/PCINT0, 12 PB1/MISO/DO/AIN1/OC0B/OC1A/PCINT1, 14 PB2/SCK/USCK/SCL/ADC1/T0/INT0/PCINT2, 15 VCC, 21 GND

## ATTINY45V-10SUR
designator IC?
IC MCU 8BIT 4KB FLASH 8SOIC; Manufacturer: Atmel; Core Processor: AVR; Core Size: 8-Bit; Speed: 10MHz; Number Of IO: 6; Program Memory Size: 4KB (2K x 16); EEPROM Size: 256 x 8; Data Converters: A/D 4x10b; Oscillator Type: Internal; Part Number: ATTINY45V-10SUR; PartId: 9157; Supplier 1: Digi-Key; Supplier Part Number 1: ATTINY45V-10SURTR-ND; ComponentLink1Description: Datasheet; ComponentLink1URL: http://www.atmel.com/Images/Atmel-2586-AVR-8-bit-Microcontroller-ATtiny25-ATtiny45-ATtiny85_Datasheet-Summary.pdf; ComponentLink2Description: Digi-Key Listing; ComponentLink2URL: https://www.digikey.com/product-detail/en/ATTINY45V-10SUR/ATTINY45V-10SURTR-ND/2357415; Price: 1.3187; Device Package: 8-SOIC (0.209", 5.30mm Width); Series: AVR® ATtiny; Program Memory Type: FLASH; Ram Size: 256 x 8
footprint Atmel SO-8 Wide 8S2
pins: 1 PB5/PCINT5/~{RESET}/ADC0/dW, 2 PB3/PCINT3/XTAL1/CLKI/~{OC1B}/ADC3, 3 PB4/PCINT4/XTAL2/CLKO/OC1B/ADC2, 4 GND, 5 PB0/MOSI/DI/SDA/AIN0/OC0A/~{OC1A}/AREF/PCINT0, 6 PB1/MISO/DO/AIN1/OC0B/OC1A/PCINT1, 7 PB2/SCK/USCK/SCL/ADC1/T0/INT0/PCINT2, 8 VCC

## ATTINY45V-10XUR
designator IC?
IC MCU 8BIT 4KB FLASH 8TSSOP; Manufacturer: Atmel; Core Processor: AVR; Core Size: 8-Bit; Speed: 10MHz; Number Of IO: 6; Program Memory Size: 4KB (2K x 16); EEPROM Size: 256 x 8; Data Converters: A/D 4x10b; Oscillator Type: Internal; Part Number: ATTINY45V-10XUR; PartId: 9163; Supplier 1: Digi-Key; Supplier Part Number 1: ATTINY45V-10XURTR-ND; ComponentLink1Description: Datasheet; ComponentLink1URL: http://www.atmel.com/Images/Atmel-2586-AVR-8-bit-Microcontroller-ATtiny25-ATtiny45-ATtiny85_Datasheet-Summary.pdf; ComponentLink2Description: Digi-Key Listing; ComponentLink2URL: https://www.digikey.com/product-detail/en/ATTINY45V-10XUR/ATTINY45V-10XURTR-ND/2357416; Price: 1.3187; Device Package: 8-TSSOP (0.173", 4.40mm Width); Series: AVR® ATtiny; Program Memory Type: FLASH; Ram Size: 256 x 8
footprint Atmel TSSOP-8 8X
pins: 1 PB5/PCINT5/~{RESET}/ADC0/dW, 2 PB3/PCINT3/XTAL1/CLKI/~{OC1B}/ADC3, 3 PB4/PCINT4/XTAL2/CLKO/OC1B/ADC2, 4 GND, 5 PB0/MOSI/DI/SDA/AIN0/OC0A/~{OC1A}/AREF/PCINT0, 6 PB1/MISO/DO/AIN1/OC0B/OC1A/PCINT1, 7 PB2/SCK/USCK/SCL/ADC1/T0/INT0/PCINT2, 8 VCC

## ATTINY45V-15MT
designator IC?
IC MCU 8BIT 4KB FLASH 20QFN; Manufacturer: Atmel; Core Processor: AVR; Core Size: 8-Bit; Speed: 8MHz; Number Of IO: 6; Program Memory Size: 4KB (2K x 16); EEPROM Size: 256 x 8; Data Converters: A/D 4x10b; Oscillator Type: Internal; Part Number: ATTINY45V-15MT; PartId: 9171; Supplier 1: Digi-Key; Supplier Part Number 1: ATTINY45V-15MTTR-ND; ComponentLink1Description: Datasheet; ComponentLink1URL: http://www.atmel.com/images/atmel-2586-avr-8-bit-microcontroller-attiny25-attiny45-attiny85_datasheet.pdf; ComponentLink2Description: Digi-Key Listing; ComponentLink2URL: https://www.digikey.com/product-detail/en/ATTINY45V-15MT/ATTINY45V-15MTTR-ND/1914718; Price: 1.625; Device Package: 20-WFQFN Exposed Pad; Series: AVR® ATtiny; Program Memory Type: FLASH; Ram Size: 256 x 8
footprint Atmel MLF-20 20M1
pins: 1 PB5/(PCINT5/~{RESET}/ADC0/dW, 2 PB3/PCINT3/XTAL1/CLKI/~{OC1B}/ADC3, 5 PB4/PCINT4/XTAL2/CLKO/OC1B/ADC2, 8 GND, 11 PB0/MOSI/DI/SDA/AIN0/OC0A/~{OC1A}/AREF/PCINT0, 12 PB1/MISO/DO/AIN1/OC0B/OC1A/PCINT1, 14 PB2/SCK/USCK/SCL/ADC1/T0/INT0/PCINT2, 15 VCC, 21 GND

## ATTINY84-20MU
designator IC?
IC MCU 8BIT 8KB FLASH 20QFN; Manufacturer: Atmel; Core Processor: AVR; Core Size: 8-Bit; Speed: 20MHz; Number Of IO: 12; Program Memory Size: 8KB (4K x 16); EEPROM Size: 512 x 8; Data Converters: A/D 8x10b; Oscillator Type: Internal; Part Number: ATTINY84-20MU; PartId: 9200; Supplier 1: Digi-Key; Supplier Part Number 1: ATTINY84-20MU-ND; ComponentLink1Description: Datasheet; ComponentLink1URL: http://www.atmel.com/Images/8006s.pdf; ComponentLink2Description: Digi-Key Listing; ComponentLink2URL: https://www.digikey.com/product-detail/en/ATTINY84-20MU/ATTINY84-20MU-ND/1245915; Price: 3.5; Device Package: 20-WFQFN Exposed Pad; Series: AVR® ATtiny; Program Memory Type: FLASH; Ram Size: 512 x 8
footprint Atmel MLF-20 20M1
pins: 1 PA4/ADC4/USCK/SCL/T1/PCINT4, 2 PA3/ADC3/T0/PCINT3, 3 PA2/ADC2/AIN1/PCINT2, 4 PA1/ADC1/AIN0/PCINT1, 5 PA0/ADC0/AREF/PCINT0, 8 GND, 9 VCC, 11 PB0/PCINT8/XTAL1/CLKI, 12 PB1/PCINT9/XTAL2, 13 PB3/PCINT11/~{RESET}/dW, 14 PB2/PCINT10/INT0/OC0A/CKOUT, 15 PA7/PCINT7/ICP/OC0B/ADC7, 16 PA6/PCINT6/OC1A/SDA/MOSI/DI/ADC6, 20 PA5/ADC5/DO/MISO/OC1B/PCINT5, 21 GND